# EAGLE library part SD-CARD (library parts)
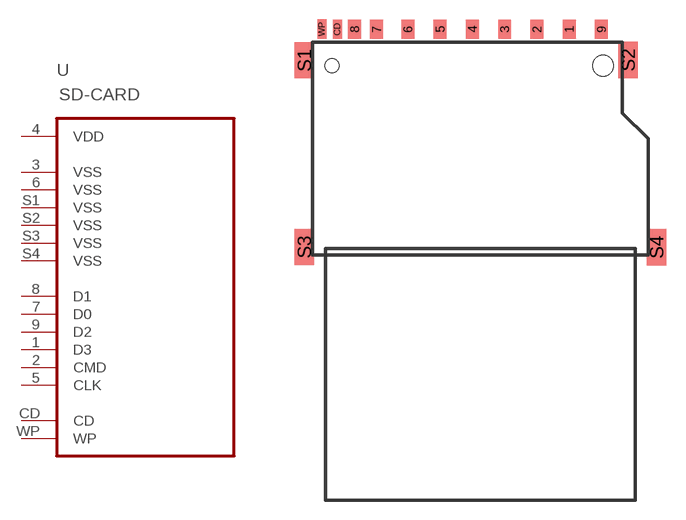
[diagram p17: symbol with the pads of SD-CARD-AMP-10100708; footprint SD-CARD-AMP-10100708]

Designator prefix U

## SD-CARD  [SD-CARD-AMP-10100708]
1  D3
2  CMD  out
3  VSS  pwr
4  VDD  pwr
5  CLK
6  VSS  pwr
7  D0
8  D1
9  D2
CD  CD  pwr
S1  VSS  pwr
S2  VSS  pwr
S3  VSS  pwr
S4  VSS  pwr
WP  WP  pwr

## Footprint SD-CARD-AMP-10100708 (pad centres in mm)
smd 1 x 1.5: 1 6.87,0; 2 4.37,0; 3 1.87,0; 4 -0.63,0; 5 -3.13,0; 6 -5.63,0; 7 -8.05,0; 8 -9.75,0; 9 9.37,0
smd 0.7 x 1.5: CD -11.09,0; WP -12.29,0.01
smd 1.5 x 2.8: S1 -13.65,-2.41; S2 11.44,-2.39; S3 -13.65,-16.88; S4 13.65,-16.9
hole 1.1 at -11.5,-2.83
hole 1.6 at 9.49,-2.83